# Altium footprint library SparkFun-Connectors.PCBLIB: 379 footprints (part 11 of 24)
Each footprint in its own frame and in the unit in brackets; x right, y up, seen from the top. Pads: shape width x height; smd on the part's side, far side on the other; paste and mask are expansions set on the pad; w line width, h text height; cw(c..) or ccw(c..) is an arc to the next point about the centre after c.
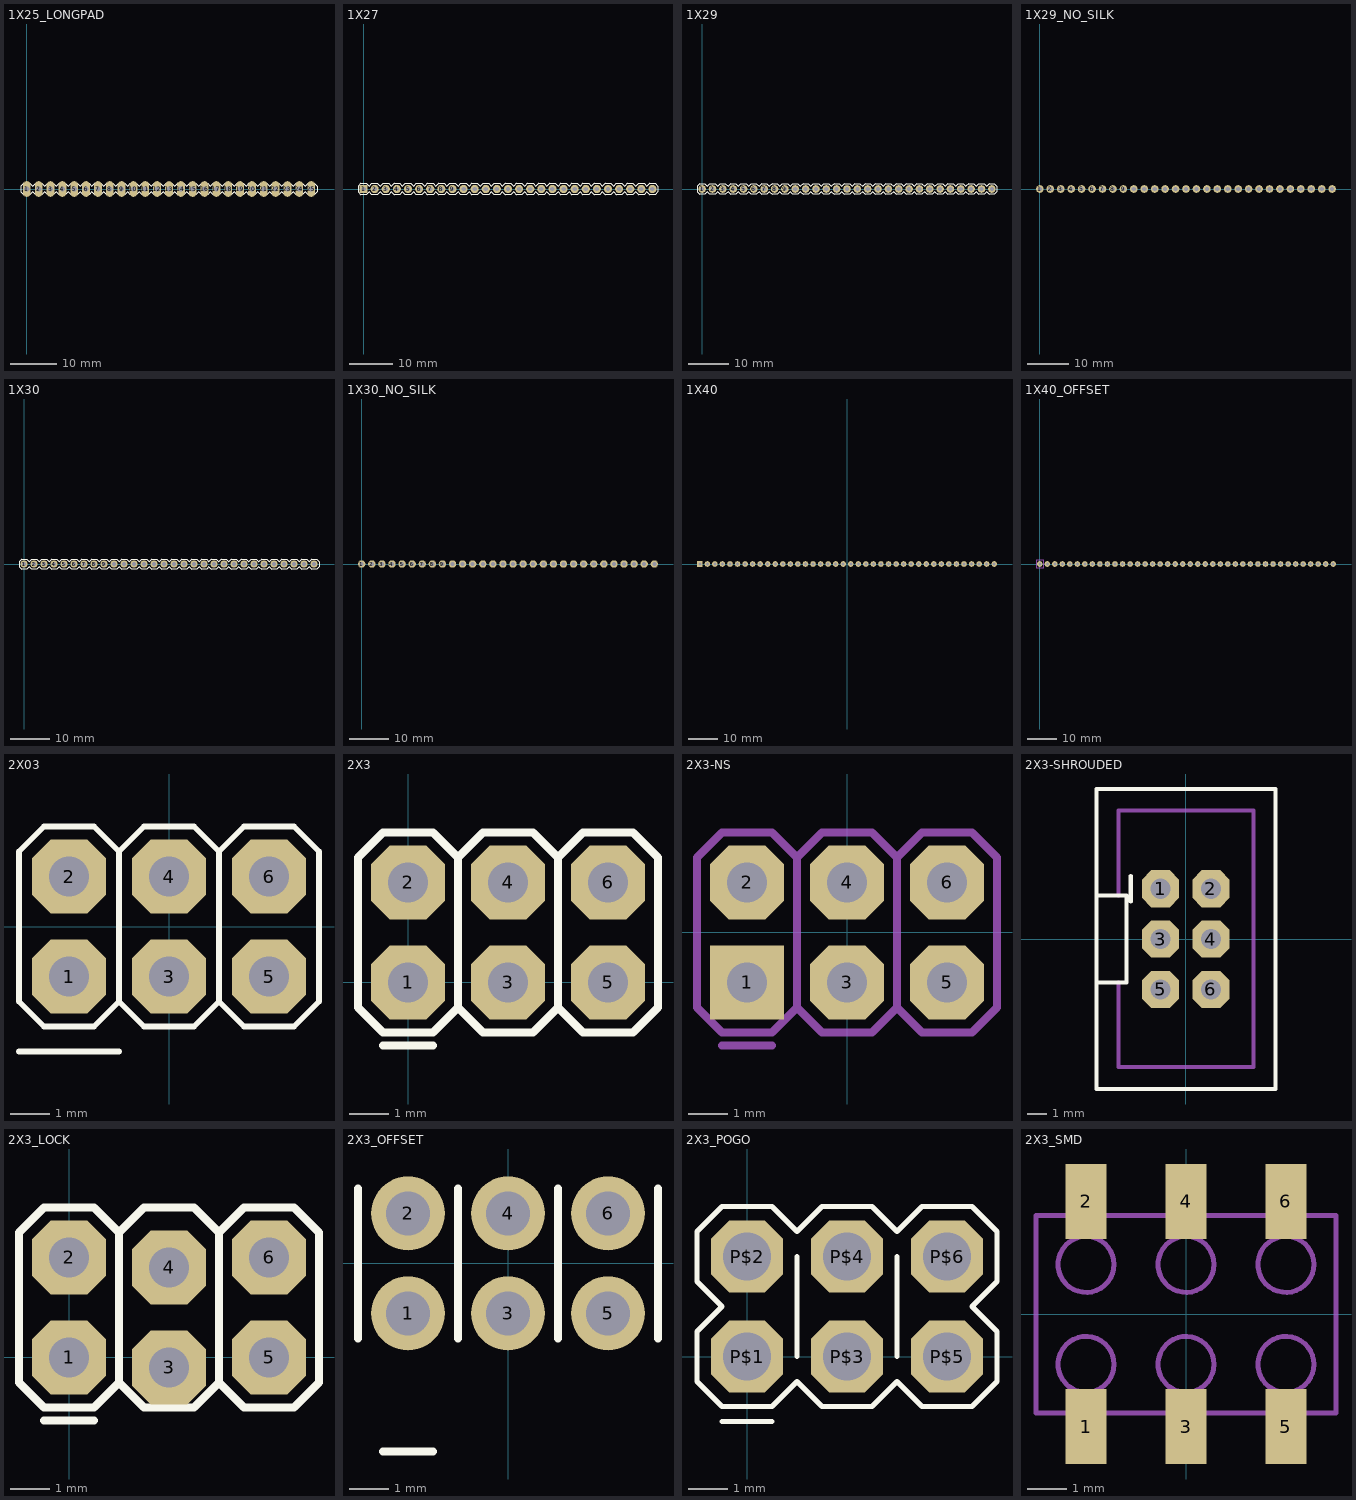
[diagram p10: the footprints below, top view; thin cyan lines are the x and y axes]

## 1X25_LONGPAD [mil]
pads (25):
  oval 66x132 hole 44: 1(0,0) 2(100,0) 3(200,0) 4(300,0) 5(400,0) 6(500,0) 7(600,0) 8(700,0) 9(800,0) 10(900,0) 11(1000,0) 12(1100,0) 13(1200,0) 14(1300,0) 15(1400,0) 16(1500,0) 17(1600,0) 18(1700,0) 19(1800,0) 20(1900,0) 21(2000,0) 22(2100,0) 23(2200,0) 24(2300,0) 25(2400,0)
Top Overlay:
  drawing of 152 lines, arcs and shapes, not listed
Mechanical 2:
  text ">NAME" at -53,72 h77.5
Mechanical 4:
  text ">VALUE" at -50,-125 h77.5
Mechanical 16:
  rectangle: 590,-10 610,10
  rectangle: 490,-10 510,10
  rectangle: 390,-10 410,10
  rectangle: 290,-10 310,10
  rectangle: 190,-10 210,10
  rectangle: 90,-10 110,10
  rectangle: -10,-10 10,10
  rectangle: 1290,-10 1310,10
  rectangle: 1190,-10 1210,10
  rectangle: 1090,-10 1110,10
  rectangle: 990,-10 1010,10
  rectangle: 890,-10 910,10
  rectangle: 790,-10 810,10
  rectangle: 690,-10 710,10
  rectangle: 1390,-10 1410,10
  rectangle: 1490,-10 1510,10
  rectangle: 1590,-10 1610,10
  rectangle: 1690,-10 1710,10
  rectangle: 1790,-10 1810,10
  rectangle: 1890,-10 1910,10
  rectangle: 1990,-10 2010,10
  rectangle: 2090,-10 2110,10
  rectangle: 2190,-10 2210,10
  rectangle: 2290,-10 2310,10
  rectangle: 2390,-10 2410,10

## 1X27 [mil]
pads (27):
  rect 74x74 hole 40: 1(0,0)
  round 74 hole 40: 2(100,0) 3(200,0) 4(300,0) 5(400,0) 6(500,0) 7(600,0) 8(700,0) 9(800,0) 10(900,0) 11(1000,0) 12(1100,0) 13(1200,0) 14(1300,0) 15(1400,0) 16(1500,0) 17(1600,0) 18(1700,0) 19(1800,0) 20(1900,0) 21(2000,0) 22(2100,0) 23(2200,0) 24(2300,0) 25(2400,0) 26(2500,0) 27(2600,0)
Top Overlay:
  drawing of 164 lines, arcs and shapes, not listed
Mechanical 2:
  text ">NAME" at -53,72 h77.5
Mechanical 4:
  text ">VALUE" at -50,-125 h77.5
Mechanical 16:
  rectangle: 590,-10 610,10
  rectangle: 490,-10 510,10
  rectangle: 390,-10 410,10
  rectangle: 290,-10 310,10
  rectangle: 190,-10 210,10
  rectangle: 90,-10 110,10
  rectangle: -10,-10 10,10
  rectangle: 1290,-10 1310,10
  rectangle: 1190,-10 1210,10
  rectangle: 1090,-10 1110,10
  rectangle: 990,-10 1010,10
  rectangle: 890,-10 910,10
  rectangle: 790,-10 810,10
  rectangle: 690,-10 710,10
  rectangle: 1390,-10 1410,10
  rectangle: 1490,-10 1510,10
  rectangle: 1590,-10 1610,10
  rectangle: 1690,-10 1710,10
  rectangle: 1790,-10 1810,10
  rectangle: 1890,-10 1910,10
  rectangle: 1990,-10 2010,10
  rectangle: 2090,-10 2110,10
  rectangle: 2190,-10 2210,10
  rectangle: 2490,-10 2510,10
  rectangle: 2590,-10 2610,10
  rectangle: 2290,-10 2310,10
  rectangle: 2390,-10 2410,10

## 1X29 [mil]
pads (29):
  round 74 hole 40: 1(0,0) 2(100,0) 3(200,0) 4(300,0) 5(400,0) 6(500,0) 7(600,0) 8(700,0) 9(800,0) 10(900,0) 11(1000,0) 12(1100,0) 13(1200,0) 14(1300,0) 15(1400,0) 16(1500,0) 17(1600,0) 18(1700,0) 19(1800,0) 20(1900,0) 21(2000,0) 22(2100,0) 23(2200,0) 24(2300,0) 25(2400,0) 26(2500,0) 27(2600,0) 28(2700,0) 29(2800,0)
Top Overlay:
  drawing of 176 lines, arcs and shapes, not listed
Mechanical 2:
  text ">NAME" at -53,72 h77.5
Mechanical 4:
  text ">VALUE" at -50,-125 h77.5
Mechanical 16:
  rectangle: 590,-10 610,10
  rectangle: 490,-10 510,10
  rectangle: 390,-10 410,10
  rectangle: 290,-10 310,10
  rectangle: 190,-10 210,10
  rectangle: 90,-10 110,10
  rectangle: -10,-10 10,10
  rectangle: 1290,-10 1310,10
  rectangle: 1190,-10 1210,10
  rectangle: 1090,-10 1110,10
  rectangle: 990,-10 1010,10
  rectangle: 890,-10 910,10
  rectangle: 790,-10 810,10
  rectangle: 690,-10 710,10
  rectangle: 1390,-10 1410,10
  rectangle: 1490,-10 1510,10
  rectangle: 1590,-10 1610,10
  rectangle: 1690,-10 1710,10
  rectangle: 1790,-10 1810,10
  rectangle: 1890,-10 1910,10
  rectangle: 1990,-10 2010,10
  rectangle: 2090,-10 2110,10
  rectangle: 2190,-10 2210,10
  rectangle: 2490,-10 2510,10
  rectangle: 2590,-10 2610,10
  rectangle: 2290,-10 2310,10
  rectangle: 2390,-10 2410,10
  rectangle: 2690,-10 2710,10
  rectangle: 2790,-10 2810,10

## 1X29_NO_SILK [mil]
pads (29):
  round 74 hole 40: 1(0,0) 2(100,0) 3(200,0) 4(300,0) 5(400,0) 6(500,0) 7(600,0) 8(700,0) 9(800,0) 10(900,0) 11(1000,0) 12(1100,0) 13(1200,0) 14(1300,0) 15(1400,0) 16(1500,0) 17(1600,0) 18(1700,0) 19(1800,0) 20(1900,0) 21(2000,0) 22(2100,0) 23(2200,0) 24(2300,0) 25(2400,0) 26(2500,0) 27(2600,0) 28(2700,0) 29(2800,0)
Mechanical 2:
  text ">NAME" at -53,72 h77.5
Mechanical 4:
  text ">VALUE" at -50,-125 h77.5
Mechanical 16:
  rectangle: 590,-10 610,10
  rectangle: 490,-10 510,10
  rectangle: 390,-10 410,10
  rectangle: 290,-10 310,10
  rectangle: 190,-10 210,10
  rectangle: 90,-10 110,10
  rectangle: -10,-10 10,10
  rectangle: 1290,-10 1310,10
  rectangle: 1190,-10 1210,10
  rectangle: 1090,-10 1110,10
  rectangle: 990,-10 1010,10
  rectangle: 890,-10 910,10
  rectangle: 790,-10 810,10
  rectangle: 690,-10 710,10
  rectangle: 1390,-10 1410,10
  rectangle: 1490,-10 1510,10
  rectangle: 1590,-10 1610,10
  rectangle: 1690,-10 1710,10
  rectangle: 1790,-10 1810,10
  rectangle: 1890,-10 1910,10
  rectangle: 1990,-10 2010,10
  rectangle: 2090,-10 2110,10
  rectangle: 2190,-10 2210,10
  rectangle: 2490,-10 2510,10
  rectangle: 2590,-10 2610,10
  rectangle: 2290,-10 2310,10
  rectangle: 2390,-10 2410,10
  rectangle: 2690,-10 2710,10
  rectangle: 2790,-10 2810,10

## 1X30 [mil]
pads (30):
  round 74 hole 40: 1(0,0) 2(100,0) 3(200,0) 4(300,0) 5(400,0) 6(500,0) 7(600,0) 8(700,0) 9(800,0) 10(900,0) 11(1000,0) 12(1100,0) 13(1200,0) 14(1300,0) 15(1400,0) 16(1500,0) 17(1600,0) 18(1700,0) 19(1800,0) 20(1900,0) 21(2000,0) 22(2100,0) 23(2200,0) 24(2300,0) 25(2400,0) 26(2500,0) 27(2600,0) 28(2700,0) 29(2800,0) 30(2900,0)
Top Overlay:
  drawing of 182 lines, arcs and shapes, not listed
Mechanical 2:
  text ">NAME" at -53,72 h77.5
Mechanical 4:
  text ">VALUE" at -50,-125 h77.5
Mechanical 16:
  rectangle: 590,-10 610,10
  rectangle: 490,-10 510,10
  rectangle: 390,-10 410,10
  rectangle: 290,-10 310,10
  rectangle: 190,-10 210,10
  rectangle: 90,-10 110,10
  rectangle: -10,-10 10,10
  rectangle: 1290,-10 1310,10
  rectangle: 1190,-10 1210,10
  rectangle: 1090,-10 1110,10
  rectangle: 990,-10 1010,10
  rectangle: 890,-10 910,10
  rectangle: 790,-10 810,10
  rectangle: 690,-10 710,10
  rectangle: 1390,-10 1410,10
  rectangle: 1490,-10 1510,10
  rectangle: 1590,-10 1610,10
  rectangle: 1690,-10 1710,10
  rectangle: 1790,-10 1810,10
  rectangle: 1890,-10 1910,10
  rectangle: 1990,-10 2010,10
  rectangle: 2090,-10 2110,10
  rectangle: 2190,-10 2210,10
  rectangle: 2490,-10 2510,10
  rectangle: 2590,-10 2610,10
  rectangle: 2290,-10 2310,10
  rectangle: 2390,-10 2410,10
  rectangle: 2690,-10 2710,10
  rectangle: 2790,-10 2810,10
  rectangle: 2890,-10 2910,10

## 1X30_NO_SILK [mil]
pads (30):
  round 74 hole 40: 1(0,0) 2(100,0) 3(200,0) 4(300,0) 5(400,0) 6(500,0) 7(600,0) 8(700,0) 9(800,0) 10(900,0) 11(1000,0) 12(1100,0) 13(1200,0) 14(1300,0) 15(1400,0) 16(1500,0) 17(1600,0) 18(1700,0) 19(1800,0) 20(1900,0) 21(2000,0) 22(2100,0) 23(2200,0) 24(2300,0) 25(2400,0) 26(2500,0) 27(2600,0) 28(2700,0) 29(2800,0) 30(2900,0)
Mechanical 2:
  text ">NAME" at -53,72 h77.5
Mechanical 4:
  text ">VALUE" at -50,-125 h77.5
Mechanical 16:
  rectangle: 590,-10 610,10
  rectangle: 490,-10 510,10
  rectangle: 390,-10 410,10
  rectangle: 290,-10 310,10
  rectangle: 190,-10 210,10
  rectangle: 90,-10 110,10
  rectangle: -10,-10 10,10
  rectangle: 1290,-10 1310,10
  rectangle: 1190,-10 1210,10
  rectangle: 1090,-10 1110,10
  rectangle: 990,-10 1010,10
  rectangle: 890,-10 910,10
  rectangle: 790,-10 810,10
  rectangle: 690,-10 710,10
  rectangle: 1390,-10 1410,10
  rectangle: 1490,-10 1510,10
  rectangle: 1590,-10 1610,10
  rectangle: 1690,-10 1710,10
  rectangle: 1790,-10 1810,10
  rectangle: 1890,-10 1910,10
  rectangle: 1990,-10 2010,10
  rectangle: 2090,-10 2110,10
  rectangle: 2190,-10 2210,10
  rectangle: 2490,-10 2510,10
  rectangle: 2590,-10 2610,10
  rectangle: 2290,-10 2310,10
  rectangle: 2390,-10 2410,10
  rectangle: 2690,-10 2710,10
  rectangle: 2790,-10 2810,10
  rectangle: 2890,-10 2910,10

## 1X40 [mil]
pads (40):
  rect 74x74 hole 40: 1(-1950,0)
  round 74 hole 40: 2(-1850,0) 3(-1750,0) 4(-1650,0) 5(-1550,0) 6(-1450,0) 7(-1350,0) 8(-1250,0) 9(-1150,0) 10(-1050,0) 11(-950,0) 12(-850,0) 13(-750,0) 14(-650,0) 15(-550,0) 16(-450,0) 17(-350,0) 18(-250,0) 19(-150,0) 20(-50,0) 21(50,0) 22(150,0) 23(250,0) 24(350,0) 25(450,0) 26(550,0) 27(650,0) 28(750,0) 29(850,0) 30(950,0) 31(1050,0) 32(1150,0) 33(1250,0) 34(1350,0) 35(1450,0) 36(1550,0) 37(1650,0) 38(1750,0) 39(1850,0) 40(1950,0)
Mechanical 2:
  text ">NAME" at -2003,72 h77.5
Mechanical 4:
  text ">VALUE" at -2000,-125 h77.5
Mechanical 16:
  rectangle: -1360,-10 -1340,10
  rectangle: -1460,-10 -1440,10
  rectangle: -1560,-10 -1540,10
  rectangle: -1660,-10 -1640,10
  rectangle: -1760,-10 -1740,10
  rectangle: -1860,-10 -1840,10
  rectangle: -1960,-10 -1940,10
  rectangle: -660,-10 -640,10
  rectangle: -760,-10 -740,10
  rectangle: -860,-10 -840,10
  rectangle: -960,-10 -940,10
  rectangle: -1060,-10 -1040,10
  rectangle: -1160,-10 -1140,10
  rectangle: -1260,-10 -1240,10
  rectangle: -560,-10 -540,10
  rectangle: -460,-10 -440,10
  rectangle: -360,-10 -340,10
  rectangle: -260,-10 -240,10
  rectangle: -160,-10 -140,10
  rectangle: -60,-10 -40,10
  rectangle: 140,-10 160,10
  rectangle: 40,-10 60,10
  rectangle: 240,-10 260,10
  rectangle: 340,-10 360,10
  rectangle: 440,-10 460,10
  rectangle: 540,-10 560,10
  rectangle: 640,-10 660,10
  rectangle: 740,-10 760,10
  rectangle: 840,-10 860,10
  rectangle: 940,-10 960,10
  rectangle: 1040,-10 1060,10
  rectangle: 1140,-10 1160,10
  rectangle: 1240,-10 1260,10
  rectangle: 1340,-10 1360,10
  rectangle: 1440,-10 1460,10
  rectangle: 1540,-10 1560,10
  rectangle: 1640,-10 1660,10
  rectangle: 1740,-10 1760,10
  rectangle: 1840,-10 1860,10
  rectangle: 1940,-10 1960,10

## 1X40_OFFSET [mil]
pads (40):
  round 74 hole 40: 1(0,0) 2(100,0) 3(200,0) 4(300,0) 5(400,0) 6(500,0) 7(600,0) 8(700,0) 9(800,0) 10(900,0) 11(1000,0) 12(1100,0) 13(1200,0) 14(1300,0) 15(1400,0) 16(1500,0) 17(1600,0) 18(1700,0) 19(1800,0) 20(1900,0) 21(2000,0) 22(2100,0) 23(2200,0) 24(2300,0) 25(2400,0) 26(2500,0) 27(2600,0) 28(2700,0) 29(2800,0) 30(2900,0) 31(3000,0) 32(3100,0) 33(3200,0) 34(3300,0) 35(3400,0) 36(3500,0) 37(3600,0) 38(3700,0) 39(3800,0) 40(3900,0)
Mechanical 2:
  text ">NAME" at -53,72 h77.5
Mechanical 4:
  text ">VALUE" at -50,-175 h77.5
Mechanical 14:
  lines w5: -50,-50 -50,50 50,50 50,-50 -50,-50
Mechanical 16:
  rectangle: 590,-10 610,10
  rectangle: 490,-10 510,10
  rectangle: 390,-10 410,10
  rectangle: 290,-10 310,10
  rectangle: 190,-10 210,10
  rectangle: 90,-10 110,10
  rectangle: -10,-10 10,10
  rectangle: 1290,-10 1310,10
  rectangle: 1190,-10 1210,10
  rectangle: 1090,-10 1110,10
  rectangle: 990,-10 1010,10
  rectangle: 890,-10 910,10
  rectangle: 790,-10 810,10
  rectangle: 690,-10 710,10
  rectangle: 1390,-10 1410,10
  rectangle: 1490,-10 1510,10
  rectangle: 1590,-10 1610,10
  rectangle: 1690,-10 1710,10
  rectangle: 1790,-10 1810,10
  rectangle: 1890,-10 1910,10
  rectangle: 2090,-10 2110,10
  rectangle: 1990,-10 2010,10
  rectangle: 2190,-10 2210,10
  rectangle: 2290,-10 2310,10
  rectangle: 2390,-10 2410,10
  rectangle: 2490,-10 2510,10
  rectangle: 2590,-10 2610,10
  rectangle: 2690,-10 2710,10
  rectangle: 2790,-10 2810,10
  rectangle: 2890,-10 2910,10
  rectangle: 2990,-10 3010,10
  rectangle: 3090,-10 3110,10
  rectangle: 3190,-10 3210,10
  rectangle: 3290,-10 3310,10
  rectangle: 3390,-10 3410,10
  rectangle: 3490,-10 3510,10
  rectangle: 3590,-10 3610,10
  rectangle: 3690,-10 3710,10
  rectangle: 3790,-10 3810,10
  rectangle: 3890,-10 3910,10

## 2X03 [mil]
pads (6):
  oct 74x74 hole 40: 1(-100,-50) 2(-100,50) 3(0,-50) 4(0,50) 5(100,-50) 6(100,50)
Top Overlay:
  lines w6: -150,-125 -50,-125 ; -50,-75 -75,-100 -125,-100 -150,-75 -150,75 -125,100 -75,100 -50,75 ; -50,-75 -25,-100 25,-100 50,-75 ; -50,-75 -50,75 ; -50,75 -25,100 25,100 50,75 ; 50,-75 50,75 ; 50,-75 75,-100 125,-100 150,-75 150,75 125,100 75,100 50,75
Mechanical 2:
  text ">NAME" at -150,125 h77.5
Mechanical 4:
  text ">VALUE" at -150,-175 h77.5
Mechanical 16:
  rectangle: -110,-60 -90,-40
  rectangle: -110,40 -90,60
  rectangle: -10,40 10,60
  rectangle: -10,-60 10,-40
  rectangle: 90,40 110,60
  rectangle: 90,-60 110,-40

## 2X3 [mil]
pads (6):
  oct 74x74 hole 40: 1(0,0) 2(0,100) 3(100,0) 4(100,100) 5(200,0) 6(200,100)
Top Overlay:
  lines w8: -25,-63.19 25,-63.19 ; 50,-25 25,-50 -25,-50 -50,-25 -50,125 -25,150 25,150 50,125 ; 50,-25 75,-50 125,-50 150,-25 ; 50,-25 50,125 ; 50,125 75,150 125,150 150,125 ; 150,-25 175,-50 225,-50 250,-25 250,125 225,150 175,150 150,125 ; 150,-25 150,125
Mechanical 2:
  text ">NAME" at -50,175 h77.5
Mechanical 4:
  text ">VALUE" at -50,-125 h77.5
Mechanical 16:
  rectangle: -10,-10 10,10
  rectangle: -10,90 10,110
  rectangle: 90,90 110,110
  rectangle: 90,-10 110,10
  rectangle: 190,90 210,110
  rectangle: 190,-10 210,10

## 2X3-NS [mil]
pads (6):
  rect 74x74 hole 40: 1(-100,-50)
  oct 74x74 hole 40: 2(-100,50) 3(0,-50) 4(0,50) 5(100,-50) 6(100,50)
Mechanical 2:
  text ">NAME" at -150,125 h77.5
Mechanical 4:
  text ">VALUE" at -150,-175 h77.5
Mechanical 16:
  rectangle: -110,-60 -90,-40
  rectangle: -110,40 -90,60
  rectangle: -10,40 10,60
  rectangle: -10,-60 10,-40
  rectangle: 90,40 110,60
  rectangle: 90,-60 110,-40
  lines w8: -125,-113.19 -75,-113.19 ; -50,-75 -75,-100 -125,-100 -150,-75 -150,75 -125,100 -75,100 -50,75 ; -50,-75 -25,-100 25,-100 50,-75 ; -50,-75 -50,75 ; -50,75 -25,100 25,100 50,75 ; 50,-75 75,-100 125,-100 150,-75 150,75 125,100 75,100 50,75 ; 50,-75 50,75

## 2X3-SHROUDED [mil]
pads (6):
  oct 74x74 hole 40: 1(-50,100) 2(50,100) 3(-50,0) 4(50,0) 5(-50,-100) 6(50,-100)
Top Overlay:
  lines w8: -109.25,75 -109.25,125 ; 174,298 -177.17,298 -177.17,87 ; 178,298 178,-297.64 -177.17,-297.64 -177.17,-86.61 ; -177.17,-86.61 -177.17,87 ; -177.17,-86.61 -118.11,-86.61 -118.11,87 -177.17,87
Mechanical 2:
  text ">NAME" at -115,-330 h24.8
Mechanical 4:
  text ">VALUE" at -115,310 h13.6
Mechanical 16:
  rectangle: 40,90 60,110
  rectangle: -60,90 -40,110
  rectangle: 40,-10 60,10
  rectangle: -60,-10 -40,10
  rectangle: 40,-110 60,-90
  rectangle: -60,-110 -40,-90
  rectangle: -60,-110 -40,-90
  rectangle: 40,-110 60,-90
  lines w8: -133.86,-86.61 -133.86,-254.33 134,-254.33 134,255 -133.86,255 -133.86,87

## 2X3_LOCK [mil]
pads (6):
  oct 74x74 hole 40: 1(0,0) 2(0,100) 3(100,-10) 4(100,90) 5(200,0) 6(200,100)
Top Overlay:
  lines w8: -25,-63.19 25,-63.19 ; 50,-25 25,-50 -25,-50 -50,-25 -50,125 -25,150 25,150 50,125 ; 50,-25 75,-50 125,-50 150,-25 ; 50,-25 50,125 ; 50,125 75,150 125,150 150,125 ; 150,-25 175,-50 225,-50 250,-25 250,125 225,150 175,150 150,125 ; 150,-25 150,125
Mechanical 2:
  text ">NAME" at -50,175 h77.5
Mechanical 4:
  text ">VALUE" at -50,-125 h77.5
Mechanical 16:
  rectangle: -10,-10 10,10
  rectangle: -10,90 10,110
  rectangle: 90,90 110,110
  rectangle: 90,-10 110,10
  rectangle: 190,90 210,110
  rectangle: 190,-10 210,10

## 2X3_OFFSET [mil]
pads (6):
  round 74 hole 44: 1(-100,-50) 2(-100,50) 3(0,-50) 4(0,50) 5(100,-50) 6(100,50)
Top Overlay:
  lines w8: -150,-75 -150,75 ; -125,-188.19 -75,-188.19 ; -50,-75 -50,75 ; 50,-75 50,75 ; 150,-75 150,75
Mechanical 2:
  text ">NAME" at -175,-100 h77.5
Mechanical 4:
  text ">VALUE" at 225,-125 h77.5
Mechanical 16:
  rectangle: -110,-60 -90,-40
  rectangle: -110,40 -90,60
  rectangle: -10,40 10,60
  rectangle: -10,-60 10,-40
  rectangle: 90,40 110,60
  rectangle: 90,-60 110,-40

## 2X3_POGO [mil]
pads (6):
  oct 72x72 hole 48: P$1(0,0) P$2(0,100) P$3(100,0) P$4(100,100) P$5(200,0) P$6(200,100)
Top Overlay:
  lines w5: -25,-65 25,-65 ; 50,0 50,100 ; 150,0 150,100 ; -50,-25 -25,-50 25,-50 50,-25 75,-50 125,-50 150,-25 175,-50 225,-50 250,-25 250,25 225,50 250,75 250,125 225,150 175,150 150,125 125,150 75,150 50,125 25,150 -25,150 -50,125 -50,75 -25,50 -50,25 -50,-25
Mechanical 2:
  text ">NAME" at -20,160 h24.8
  text ">VALUE" at 70,160 h24.8

## 2X3_SMD [mil]
pads (6):
  rect 41x75 smd: 1(-100,-112.2) 2(-100,113) 3(0,-112.2) 4(0,113) 5(100,-112.2) 6(100,113)
Mechanical 2:
  text ">Name" at -137.87,4 h24.8
Mechanical 4:
  text ">Value" at -137.87,-16.06 h24.8
Mechanical 16:
  circle w5: c0,50 r28
  circle w5: c-100,50 r28
  circle w5: c-100,-50 r28
  circle w5: c0,-50 r28
  circle w5: c100,-50 r28
  circle w5: c100,50 r28
  rectangle: -11.81,101 12,132
  rectangle: -111.81,101 -88.19,132
  rectangle: 89,101 112,132
  region: -88.19,-100.39 -111.81,-100.39 -111.81,-131.89 -88.19,-131.89
  region: 12,-100.39 -11.81,-100.39 -11.81,-131.89 12,-131.89
  region: 112,-100.39 89,-100.39 89,-131.89 112,-131.89
  lines w5: -150,-98.43 -150,99 150,99 150,-98.43 -150,-98.43